# Altium integrated library MitchSwitch_Bypass.Library.IntLib: 283 symbols (part 2 of 3)
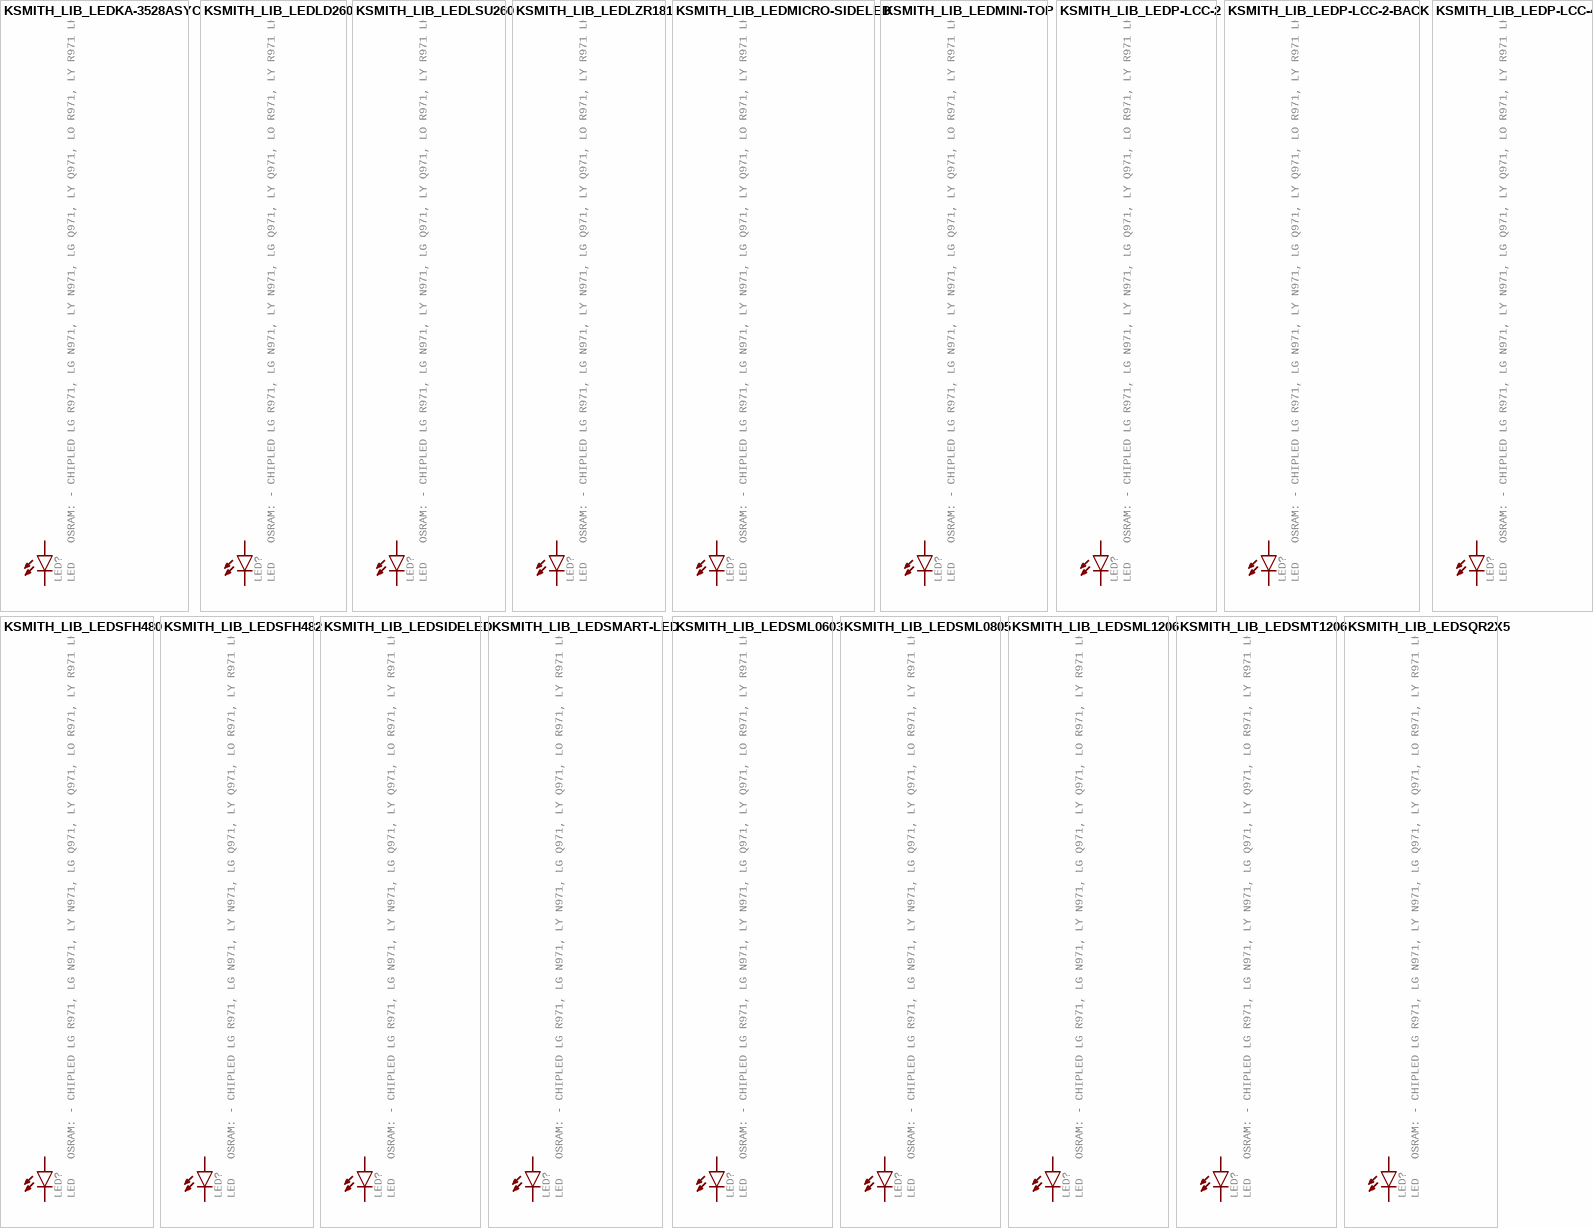
[diagram p10: symbols KSMITH_LIB_LEDKA-3528ASYC to KSMITH_LIB_LEDSQR2X5]

## KSMITH_LIB_LEDMINI-TOP
designator LED?, comment LED   OSRAM: - CHIPLED LG R971, LG N971, LY N971, LG Q971, LY Q971, LO R971, LY R971 LH N974, LH R974 LS Q976, LO Q976, LY Q976 LO Q996 - Hyper CHIPLED LW Q18S LB Q993, LB Q99A, LB R99A - SideLED LS A670, LO A670, LY A670, LG A670, LP A670 LB A673, LV A673, LT A673, LW A673 LH A674 LY A675 LS A676, LA A676, LO A676, LY A676, LW A676 LS A679, LY A679, LG A679 -  Hyper Micro SIDELEDÂ® LS Y876, LA Y876, LO Y876, LY Y876 LT Y87S - SmartLED LW L88C, LW L88S LB L89C, LB L89S, LG L890 LS L89K, LO L89K, LY L89K LS L896, LA L896, LO L896, LY L896 - TOPLED LS T670, LO T670, LY T670, LG T670, LP T670 LSG T670, LSP T670, LSY T670, LOP T670, LYG T670 LG T671, LOG T671, LSG T671 LB T673, LV T673, LT T673, LW T673 LH T674 LS T676, LA T676, LO T676, LY T676, LB T676, LH T676, LSB T676, LW T676 LB T67C, LV T67C, LT T67C, LS T67K, LO T67K, LY T67K, LW E67C LS E67B, LA E67B, LO E67B, LY E67B, LB E67C, LV E67C, LT E67C LW T67C LS T679, LY T679, LG T679 LS T770, LO T770, LY T770, LG T770, LP T770 LB T773, LV T773, LT T773, LW T773 LH T774 LS E675, LA E675, LY E675, LS T675 LS T776, LA T776, LO T776, LY T776, LB T776 LHGB T686 LT T68C, LB T68C - Hyper Mini TOPLEDÂ® LB M676 - Mini TOPLED SantanaÂ® LG M470 LS M47K, LO M47K, LY M47K    Source: http://www.osram.convergy.de   LUXEON: - LUMILEDÂ® LXK2-PW12-R00, LXK2-PW12-S00, LXK2-PW14-U00, LXK2-PW14-V00 LXK2-PM12-R00, LXK2-PM12-S00, LXK2-PM14-U00 LXK2-PE12-Q00, LXK2-PE12-R00, LXK2-PE12-S00, LXK2-PE14-T00, LXK2-PE14-U00 LXK2-PB12-K00, LXK2-PB12-L00, LXK2-PB12-M00, LXK2-PB14-N00, LXK2-PB14-P00, LXK2-PB14-Q00 LXK2-PR12-L00, LXK2-PR12-M00, LXK2-PR14-Q00, LXK2-PR14-R00 LXK2-PD12-Q00, LXK2-PD12-R00, LXK2-PD12-S00 LXK2-PH12-R00, LXK2-PH12-S00 LXK2-PL12-P00, LXK2-PL12-Q00, LXK2-PL12-R00    Source: www.luxeon.com   KINGBRIGHT:   KA-3528ASYC Source: www.kingbright.com
GateName_1: G$1; SymbolName_1: KSMITH_LIB_LED-1; DeviceName: MINI-TOP; DeviceSetName: KSMITH_LIB_LED; POPULARITY: 0; LibraryName: MitchSwitch_Bypass; Package: KSMITH_LIB_OSRAM-MINI-TOP-LED
footprint KSMITH_LIB_OSRAM-MINI-TOP-LED
pins: A, C

## KSMITH_LIB_LEDP-LCC-2
designator LED?, comment LED   OSRAM: - CHIPLED LG R971, LG N971, LY N971, LG Q971, LY Q971, LO R971, LY R971 LH N974, LH R974 LS Q976, LO Q976, LY Q976 LO Q996 - Hyper CHIPLED LW Q18S LB Q993, LB Q99A, LB R99A - SideLED LS A670, LO A670, LY A670, LG A670, LP A670 LB A673, LV A673, LT A673, LW A673 LH A674 LY A675 LS A676, LA A676, LO A676, LY A676, LW A676 LS A679, LY A679, LG A679 -  Hyper Micro SIDELEDÂ® LS Y876, LA Y876, LO Y876, LY Y876 LT Y87S - SmartLED LW L88C, LW L88S LB L89C, LB L89S, LG L890 LS L89K, LO L89K, LY L89K LS L896, LA L896, LO L896, LY L896 - TOPLED LS T670, LO T670, LY T670, LG T670, LP T670 LSG T670, LSP T670, LSY T670, LOP T670, LYG T670 LG T671, LOG T671, LSG T671 LB T673, LV T673, LT T673, LW T673 LH T674 LS T676, LA T676, LO T676, LY T676, LB T676, LH T676, LSB T676, LW T676 LB T67C, LV T67C, LT T67C, LS T67K, LO T67K, LY T67K, LW E67C LS E67B, LA E67B, LO E67B, LY E67B, LB E67C, LV E67C, LT E67C LW T67C LS T679, LY T679, LG T679 LS T770, LO T770, LY T770, LG T770, LP T770 LB T773, LV T773, LT T773, LW T773 LH T774 LS E675, LA E675, LY E675, LS T675 LS T776, LA T776, LO T776, LY T776, LB T776 LHGB T686 LT T68C, LB T68C - Hyper Mini TOPLEDÂ® LB M676 - Mini TOPLED SantanaÂ® LG M470 LS M47K, LO M47K, LY M47K    Source: http://www.osram.convergy.de   LUXEON: - LUMILEDÂ® LXK2-PW12-R00, LXK2-PW12-S00, LXK2-PW14-U00, LXK2-PW14-V00 LXK2-PM12-R00, LXK2-PM12-S00, LXK2-PM14-U00 LXK2-PE12-Q00, LXK2-PE12-R00, LXK2-PE12-S00, LXK2-PE14-T00, LXK2-PE14-U00 LXK2-PB12-K00, LXK2-PB12-L00, LXK2-PB12-M00, LXK2-PB14-N00, LXK2-PB14-P00, LXK2-PB14-Q00 LXK2-PR12-L00, LXK2-PR12-M00, LXK2-PR14-Q00, LXK2-PR14-R00 LXK2-PD12-Q00, LXK2-PD12-R00, LXK2-PD12-S00 LXK2-PH12-R00, LXK2-PH12-S00 LXK2-PL12-P00, LXK2-PL12-Q00, LXK2-PL12-R00    Source: www.luxeon.com   KINGBRIGHT:   KA-3528ASYC Source: www.kingbright.com
GateName_1: G$1; SymbolName_1: KSMITH_LIB_LED-1; DeviceName: P-LCC-2; DeviceSetName: KSMITH_LIB_LED; POPULARITY: 2; LibraryName: MitchSwitch_Bypass; Package: KSMITH_LIB_P-LCC-2
footprint KSMITH_LIB_P-LCC-2
pins: A, C

## KSMITH_LIB_LEDP-LCC-2-BACK
designator LED?, comment LED   OSRAM: - CHIPLED LG R971, LG N971, LY N971, LG Q971, LY Q971, LO R971, LY R971 LH N974, LH R974 LS Q976, LO Q976, LY Q976 LO Q996 - Hyper CHIPLED LW Q18S LB Q993, LB Q99A, LB R99A - SideLED LS A670, LO A670, LY A670, LG A670, LP A670 LB A673, LV A673, LT A673, LW A673 LH A674 LY A675 LS A676, LA A676, LO A676, LY A676, LW A676 LS A679, LY A679, LG A679 -  Hyper Micro SIDELEDÂ® LS Y876, LA Y876, LO Y876, LY Y876 LT Y87S - SmartLED LW L88C, LW L88S LB L89C, LB L89S, LG L890 LS L89K, LO L89K, LY L89K LS L896, LA L896, LO L896, LY L896 - TOPLED LS T670, LO T670, LY T670, LG T670, LP T670 LSG T670, LSP T670, LSY T670, LOP T670, LYG T670 LG T671, LOG T671, LSG T671 LB T673, LV T673, LT T673, LW T673 LH T674 LS T676, LA T676, LO T676, LY T676, LB T676, LH T676, LSB T676, LW T676 LB T67C, LV T67C, LT T67C, LS T67K, LO T67K, LY T67K, LW E67C LS E67B, LA E67B, LO E67B, LY E67B, LB E67C, LV E67C, LT E67C LW T67C LS T679, LY T679, LG T679 LS T770, LO T770, LY T770, LG T770, LP T770 LB T773, LV T773, LT T773, LW T773 LH T774 LS E675, LA E675, LY E675, LS T675 LS T776, LA T776, LO T776, LY T776, LB T776 LHGB T686 LT T68C, LB T68C - Hyper Mini TOPLEDÂ® LB M676 - Mini TOPLED SantanaÂ® LG M470 LS M47K, LO M47K, LY M47K    Source: http://www.osram.convergy.de   LUXEON: - LUMILEDÂ® LXK2-PW12-R00, LXK2-PW12-S00, LXK2-PW14-U00, LXK2-PW14-V00 LXK2-PM12-R00, LXK2-PM12-S00, LXK2-PM14-U00 LXK2-PE12-Q00, LXK2-PE12-R00, LXK2-PE12-S00, LXK2-PE14-T00, LXK2-PE14-U00 LXK2-PB12-K00, LXK2-PB12-L00, LXK2-PB12-M00, LXK2-PB14-N00, LXK2-PB14-P00, LXK2-PB14-Q00 LXK2-PR12-L00, LXK2-PR12-M00, LXK2-PR14-Q00, LXK2-PR14-R00 LXK2-PD12-Q00, LXK2-PD12-R00, LXK2-PD12-S00 LXK2-PH12-R00, LXK2-PH12-S00 LXK2-PL12-P00, LXK2-PL12-Q00, LXK2-PL12-R00    Source: www.luxeon.com   KINGBRIGHT:   KA-3528ASYC Source: www.kingbright.com
GateName_1: G$1; SymbolName_1: KSMITH_LIB_LED-1; DeviceName: P-LCC-2-BACK; DeviceSetName: KSMITH_LIB_LED; POPULARITY: 0; LibraryName: MitchSwitch_Bypass; Package: KSMITH_LIB_P-LCC-2-TOPLED-RG
footprint KSMITH_LIB_P-LCC-2-TOPLED-RG
pins: A, C

## KSMITH_LIB_LEDP-LCC-4
designator LED?, comment LED   OSRAM: - CHIPLED LG R971, LG N971, LY N971, LG Q971, LY Q971, LO R971, LY R971 LH N974, LH R974 LS Q976, LO Q976, LY Q976 LO Q996 - Hyper CHIPLED LW Q18S LB Q993, LB Q99A, LB R99A - SideLED LS A670, LO A670, LY A670, LG A670, LP A670 LB A673, LV A673, LT A673, LW A673 LH A674 LY A675 LS A676, LA A676, LO A676, LY A676, LW A676 LS A679, LY A679, LG A679 -  Hyper Micro SIDELEDÂ® LS Y876, LA Y876, LO Y876, LY Y876 LT Y87S - SmartLED LW L88C, LW L88S LB L89C, LB L89S, LG L890 LS L89K, LO L89K, LY L89K LS L896, LA L896, LO L896, LY L896 - TOPLED LS T670, LO T670, LY T670, LG T670, LP T670 LSG T670, LSP T670, LSY T670, LOP T670, LYG T670 LG T671, LOG T671, LSG T671 LB T673, LV T673, LT T673, LW T673 LH T674 LS T676, LA T676, LO T676, LY T676, LB T676, LH T676, LSB T676, LW T676 LB T67C, LV T67C, LT T67C, LS T67K, LO T67K, LY T67K, LW E67C LS E67B, LA E67B, LO E67B, LY E67B, LB E67C, LV E67C, LT E67C LW T67C LS T679, LY T679, LG T679 LS T770, LO T770, LY T770, LG T770, LP T770 LB T773, LV T773, LT T773, LW T773 LH T774 LS E675, LA E675, LY E675, LS T675 LS T776, LA T776, LO T776, LY T776, LB T776 LHGB T686 LT T68C, LB T68C - Hyper Mini TOPLEDÂ® LB M676 - Mini TOPLED SantanaÂ® LG M470 LS M47K, LO M47K, LY M47K    Source: http://www.osram.convergy.de   LUXEON: - LUMILEDÂ® LXK2-PW12-R00, LXK2-PW12-S00, LXK2-PW14-U00, LXK2-PW14-V00 LXK2-PM12-R00, LXK2-PM12-S00, LXK2-PM14-U00 LXK2-PE12-Q00, LXK2-PE12-R00, LXK2-PE12-S00, LXK2-PE14-T00, LXK2-PE14-U00 LXK2-PB12-K00, LXK2-PB12-L00, LXK2-PB12-M00, LXK2-PB14-N00, LXK2-PB14-P00, LXK2-PB14-Q00 LXK2-PR12-L00, LXK2-PR12-M00, LXK2-PR14-Q00, LXK2-PR14-R00 LXK2-PD12-Q00, LXK2-PD12-R00, LXK2-PD12-S00 LXK2-PH12-R00, LXK2-PH12-S00 LXK2-PL12-P00, LXK2-PL12-Q00, LXK2-PL12-R00    Source: www.luxeon.com   KINGBRIGHT:   KA-3528ASYC Source: www.kingbright.com
GateName_1: G$1; SymbolName_1: KSMITH_LIB_LED-1; DeviceName: P-LCC-4; DeviceSetName: KSMITH_LIB_LED; POPULARITY: 0; LibraryName: MitchSwitch_Bypass; Package: KSMITH_LIB_P-LCC-4
footprint KSMITH_LIB_P-LCC-4
pins: A, C@4 C

## KSMITH_LIB_LEDSFH480
designator LED?, comment LED   OSRAM: - CHIPLED LG R971, LG N971, LY N971, LG Q971, LY Q971, LO R971, LY R971 LH N974, LH R974 LS Q976, LO Q976, LY Q976 LO Q996 - Hyper CHIPLED LW Q18S LB Q993, LB Q99A, LB R99A - SideLED LS A670, LO A670, LY A670, LG A670, LP A670 LB A673, LV A673, LT A673, LW A673 LH A674 LY A675 LS A676, LA A676, LO A676, LY A676, LW A676 LS A679, LY A679, LG A679 -  Hyper Micro SIDELEDÂ® LS Y876, LA Y876, LO Y876, LY Y876 LT Y87S - SmartLED LW L88C, LW L88S LB L89C, LB L89S, LG L890 LS L89K, LO L89K, LY L89K LS L896, LA L896, LO L896, LY L896 - TOPLED LS T670, LO T670, LY T670, LG T670, LP T670 LSG T670, LSP T670, LSY T670, LOP T670, LYG T670 LG T671, LOG T671, LSG T671 LB T673, LV T673, LT T673, LW T673 LH T674 LS T676, LA T676, LO T676, LY T676, LB T676, LH T676, LSB T676, LW T676 LB T67C, LV T67C, LT T67C, LS T67K, LO T67K, LY T67K, LW E67C LS E67B, LA E67B, LO E67B, LY E67B, LB E67C, LV E67C, LT E67C LW T67C LS T679, LY T679, LG T679 LS T770, LO T770, LY T770, LG T770, LP T770 LB T773, LV T773, LT T773, LW T773 LH T774 LS E675, LA E675, LY E675, LS T675 LS T776, LA T776, LO T776, LY T776, LB T776 LHGB T686 LT T68C, LB T68C - Hyper Mini TOPLEDÂ® LB M676 - Mini TOPLED SantanaÂ® LG M470 LS M47K, LO M47K, LY M47K    Source: http://www.osram.convergy.de   LUXEON: - LUMILEDÂ® LXK2-PW12-R00, LXK2-PW12-S00, LXK2-PW14-U00, LXK2-PW14-V00 LXK2-PM12-R00, LXK2-PM12-S00, LXK2-PM14-U00 LXK2-PE12-Q00, LXK2-PE12-R00, LXK2-PE12-S00, LXK2-PE14-T00, LXK2-PE14-U00 LXK2-PB12-K00, LXK2-PB12-L00, LXK2-PB12-M00, LXK2-PB14-N00, LXK2-PB14-P00, LXK2-PB14-Q00 LXK2-PR12-L00, LXK2-PR12-M00, LXK2-PR14-Q00, LXK2-PR14-R00 LXK2-PD12-Q00, LXK2-PD12-R00, LXK2-PD12-S00 LXK2-PH12-R00, LXK2-PH12-S00 LXK2-PL12-P00, LXK2-PL12-Q00, LXK2-PL12-R00    Source: www.luxeon.com   KINGBRIGHT:   KA-3528ASYC Source: www.kingbright.com
GateName_1: G$1; SymbolName_1: KSMITH_LIB_LED-1; DeviceName: SFH480; DeviceSetName: KSMITH_LIB_LED; POPULARITY: 2; LibraryName: MitchSwitch_Bypass; Package: KSMITH_LIB_SFH480
footprint KSMITH_LIB_SFH480
pins: A, K C

## KSMITH_LIB_LEDSFH482
designator LED?, comment LED   OSRAM: - CHIPLED LG R971, LG N971, LY N971, LG Q971, LY Q971, LO R971, LY R971 LH N974, LH R974 LS Q976, LO Q976, LY Q976 LO Q996 - Hyper CHIPLED LW Q18S LB Q993, LB Q99A, LB R99A - SideLED LS A670, LO A670, LY A670, LG A670, LP A670 LB A673, LV A673, LT A673, LW A673 LH A674 LY A675 LS A676, LA A676, LO A676, LY A676, LW A676 LS A679, LY A679, LG A679 -  Hyper Micro SIDELEDÂ® LS Y876, LA Y876, LO Y876, LY Y876 LT Y87S - SmartLED LW L88C, LW L88S LB L89C, LB L89S, LG L890 LS L89K, LO L89K, LY L89K LS L896, LA L896, LO L896, LY L896 - TOPLED LS T670, LO T670, LY T670, LG T670, LP T670 LSG T670, LSP T670, LSY T670, LOP T670, LYG T670 LG T671, LOG T671, LSG T671 LB T673, LV T673, LT T673, LW T673 LH T674 LS T676, LA T676, LO T676, LY T676, LB T676, LH T676, LSB T676, LW T676 LB T67C, LV T67C, LT T67C, LS T67K, LO T67K, LY T67K, LW E67C LS E67B, LA E67B, LO E67B, LY E67B, LB E67C, LV E67C, LT E67C LW T67C LS T679, LY T679, LG T679 LS T770, LO T770, LY T770, LG T770, LP T770 LB T773, LV T773, LT T773, LW T773 LH T774 LS E675, LA E675, LY E675, LS T675 LS T776, LA T776, LO T776, LY T776, LB T776 LHGB T686 LT T68C, LB T68C - Hyper Mini TOPLEDÂ® LB M676 - Mini TOPLED SantanaÂ® LG M470 LS M47K, LO M47K, LY M47K    Source: http://www.osram.convergy.de   LUXEON: - LUMILEDÂ® LXK2-PW12-R00, LXK2-PW12-S00, LXK2-PW14-U00, LXK2-PW14-V00 LXK2-PM12-R00, LXK2-PM12-S00, LXK2-PM14-U00 LXK2-PE12-Q00, LXK2-PE12-R00, LXK2-PE12-S00, LXK2-PE14-T00, LXK2-PE14-U00 LXK2-PB12-K00, LXK2-PB12-L00, LXK2-PB12-M00, LXK2-PB14-N00, LXK2-PB14-P00, LXK2-PB14-Q00 LXK2-PR12-L00, LXK2-PR12-M00, LXK2-PR14-Q00, LXK2-PR14-R00 LXK2-PD12-Q00, LXK2-PD12-R00, LXK2-PD12-S00 LXK2-PH12-R00, LXK2-PH12-S00 LXK2-PL12-P00, LXK2-PL12-Q00, LXK2-PL12-R00    Source: www.luxeon.com   KINGBRIGHT:   KA-3528ASYC Source: www.kingbright.com
GateName_1: G$1; SymbolName_1: KSMITH_LIB_LED-1; DeviceName: SFH482; DeviceSetName: KSMITH_LIB_LED; POPULARITY: 0; LibraryName: MitchSwitch_Bypass; Package: KSMITH_LIB_SFH482
footprint KSMITH_LIB_SFH482
pins: A, K C

## KSMITH_LIB_LEDSIDELED
designator LED?, comment LED   OSRAM: - CHIPLED LG R971, LG N971, LY N971, LG Q971, LY Q971, LO R971, LY R971 LH N974, LH R974 LS Q976, LO Q976, LY Q976 LO Q996 - Hyper CHIPLED LW Q18S LB Q993, LB Q99A, LB R99A - SideLED LS A670, LO A670, LY A670, LG A670, LP A670 LB A673, LV A673, LT A673, LW A673 LH A674 LY A675 LS A676, LA A676, LO A676, LY A676, LW A676 LS A679, LY A679, LG A679 -  Hyper Micro SIDELEDÂ® LS Y876, LA Y876, LO Y876, LY Y876 LT Y87S - SmartLED LW L88C, LW L88S LB L89C, LB L89S, LG L890 LS L89K, LO L89K, LY L89K LS L896, LA L896, LO L896, LY L896 - TOPLED LS T670, LO T670, LY T670, LG T670, LP T670 LSG T670, LSP T670, LSY T670, LOP T670, LYG T670 LG T671, LOG T671, LSG T671 LB T673, LV T673, LT T673, LW T673 LH T674 LS T676, LA T676, LO T676, LY T676, LB T676, LH T676, LSB T676, LW T676 LB T67C, LV T67C, LT T67C, LS T67K, LO T67K, LY T67K, LW E67C LS E67B, LA E67B, LO E67B, LY E67B, LB E67C, LV E67C, LT E67C LW T67C LS T679, LY T679, LG T679 LS T770, LO T770, LY T770, LG T770, LP T770 LB T773, LV T773, LT T773, LW T773 LH T774 LS E675, LA E675, LY E675, LS T675 LS T776, LA T776, LO T776, LY T776, LB T776 LHGB T686 LT T68C, LB T68C - Hyper Mini TOPLEDÂ® LB M676 - Mini TOPLED SantanaÂ® LG M470 LS M47K, LO M47K, LY M47K    Source: http://www.osram.convergy.de   LUXEON: - LUMILEDÂ® LXK2-PW12-R00, LXK2-PW12-S00, LXK2-PW14-U00, LXK2-PW14-V00 LXK2-PM12-R00, LXK2-PM12-S00, LXK2-PM14-U00 LXK2-PE12-Q00, LXK2-PE12-R00, LXK2-PE12-S00, LXK2-PE14-T00, LXK2-PE14-U00 LXK2-PB12-K00, LXK2-PB12-L00, LXK2-PB12-M00, LXK2-PB14-N00, LXK2-PB14-P00, LXK2-PB14-Q00 LXK2-PR12-L00, LXK2-PR12-M00, LXK2-PR14-Q00, LXK2-PR14-R00 LXK2-PD12-Q00, LXK2-PD12-R00, LXK2-PD12-S00 LXK2-PH12-R00, LXK2-PH12-S00 LXK2-PL12-P00, LXK2-PL12-Q00, LXK2-PL12-R00    Source: www.luxeon.com   KINGBRIGHT:   KA-3528ASYC Source: www.kingbright.com
GateName_1: G$1; SymbolName_1: KSMITH_LIB_LED-1; DeviceSetName: KSMITH_LIB_LED; POPULARITY: 2; DeviceName: SIDELED; LibraryName: MitchSwitch_Bypass; Package: KSMITH_LIB_OSRAM-SIDELED
footprint KSMITH_LIB_OSRAM-SIDELED
pins: A, C

## KSMITH_LIB_LEDSMART-LED
designator LED?, comment LED   OSRAM: - CHIPLED LG R971, LG N971, LY N971, LG Q971, LY Q971, LO R971, LY R971 LH N974, LH R974 LS Q976, LO Q976, LY Q976 LO Q996 - Hyper CHIPLED LW Q18S LB Q993, LB Q99A, LB R99A - SideLED LS A670, LO A670, LY A670, LG A670, LP A670 LB A673, LV A673, LT A673, LW A673 LH A674 LY A675 LS A676, LA A676, LO A676, LY A676, LW A676 LS A679, LY A679, LG A679 -  Hyper Micro SIDELEDÂ® LS Y876, LA Y876, LO Y876, LY Y876 LT Y87S - SmartLED LW L88C, LW L88S LB L89C, LB L89S, LG L890 LS L89K, LO L89K, LY L89K LS L896, LA L896, LO L896, LY L896 - TOPLED LS T670, LO T670, LY T670, LG T670, LP T670 LSG T670, LSP T670, LSY T670, LOP T670, LYG T670 LG T671, LOG T671, LSG T671 LB T673, LV T673, LT T673, LW T673 LH T674 LS T676, LA T676, LO T676, LY T676, LB T676, LH T676, LSB T676, LW T676 LB T67C, LV T67C, LT T67C, LS T67K, LO T67K, LY T67K, LW E67C LS E67B, LA E67B, LO E67B, LY E67B, LB E67C, LV E67C, LT E67C LW T67C LS T679, LY T679, LG T679 LS T770, LO T770, LY T770, LG T770, LP T770 LB T773, LV T773, LT T773, LW T773 LH T774 LS E675, LA E675, LY E675, LS T675 LS T776, LA T776, LO T776, LY T776, LB T776 LHGB T686 LT T68C, LB T68C - Hyper Mini TOPLEDÂ® LB M676 - Mini TOPLED SantanaÂ® LG M470 LS M47K, LO M47K, LY M47K    Source: http://www.osram.convergy.de   LUXEON: - LUMILEDÂ® LXK2-PW12-R00, LXK2-PW12-S00, LXK2-PW14-U00, LXK2-PW14-V00 LXK2-PM12-R00, LXK2-PM12-S00, LXK2-PM14-U00 LXK2-PE12-Q00, LXK2-PE12-R00, LXK2-PE12-S00, LXK2-PE14-T00, LXK2-PE14-U00 LXK2-PB12-K00, LXK2-PB12-L00, LXK2-PB12-M00, LXK2-PB14-N00, LXK2-PB14-P00, LXK2-PB14-Q00 LXK2-PR12-L00, LXK2-PR12-M00, LXK2-PR14-Q00, LXK2-PR14-R00 LXK2-PD12-Q00, LXK2-PD12-R00, LXK2-PD12-S00 LXK2-PH12-R00, LXK2-PH12-S00 LXK2-PL12-P00, LXK2-PL12-Q00, LXK2-PL12-R00    Source: www.luxeon.com   KINGBRIGHT:   KA-3528ASYC Source: www.kingbright.com
GateName_1: G$1; SymbolName_1: KSMITH_LIB_LED-1; DeviceName: SMART-LED; DeviceSetName: KSMITH_LIB_LED; POPULARITY: 0; LibraryName: MitchSwitch_Bypass; Package: KSMITH_LIB_SMART-LED
footprint KSMITH_LIB_SMART-LED
pins: A, B C

## KSMITH_LIB_LEDSML0603
designator LED?, comment LED   OSRAM: - CHIPLED LG R971, LG N971, LY N971, LG Q971, LY Q971, LO R971, LY R971 LH N974, LH R974 LS Q976, LO Q976, LY Q976 LO Q996 - Hyper CHIPLED LW Q18S LB Q993, LB Q99A, LB R99A - SideLED LS A670, LO A670, LY A670, LG A670, LP A670 LB A673, LV A673, LT A673, LW A673 LH A674 LY A675 LS A676, LA A676, LO A676, LY A676, LW A676 LS A679, LY A679, LG A679 -  Hyper Micro SIDELEDÂ® LS Y876, LA Y876, LO Y876, LY Y876 LT Y87S - SmartLED LW L88C, LW L88S LB L89C, LB L89S, LG L890 LS L89K, LO L89K, LY L89K LS L896, LA L896, LO L896, LY L896 - TOPLED LS T670, LO T670, LY T670, LG T670, LP T670 LSG T670, LSP T670, LSY T670, LOP T670, LYG T670 LG T671, LOG T671, LSG T671 LB T673, LV T673, LT T673, LW T673 LH T674 LS T676, LA T676, LO T676, LY T676, LB T676, LH T676, LSB T676, LW T676 LB T67C, LV T67C, LT T67C, LS T67K, LO T67K, LY T67K, LW E67C LS E67B, LA E67B, LO E67B, LY E67B, LB E67C, LV E67C, LT E67C LW T67C LS T679, LY T679, LG T679 LS T770, LO T770, LY T770, LG T770, LP T770 LB T773, LV T773, LT T773, LW T773 LH T774 LS E675, LA E675, LY E675, LS T675 LS T776, LA T776, LO T776, LY T776, LB T776 LHGB T686 LT T68C, LB T68C - Hyper Mini TOPLEDÂ® LB M676 - Mini TOPLED SantanaÂ® LG M470 LS M47K, LO M47K, LY M47K    Source: http://www.osram.convergy.de   LUXEON: - LUMILEDÂ® LXK2-PW12-R00, LXK2-PW12-S00, LXK2-PW14-U00, LXK2-PW14-V00 LXK2-PM12-R00, LXK2-PM12-S00, LXK2-PM14-U00 LXK2-PE12-Q00, LXK2-PE12-R00, LXK2-PE12-S00, LXK2-PE14-T00, LXK2-PE14-U00 LXK2-PB12-K00, LXK2-PB12-L00, LXK2-PB12-M00, LXK2-PB14-N00, LXK2-PB14-P00, LXK2-PB14-Q00 LXK2-PR12-L00, LXK2-PR12-M00, LXK2-PR14-Q00, LXK2-PR14-R00 LXK2-PD12-Q00, LXK2-PD12-R00, LXK2-PD12-S00 LXK2-PH12-R00, LXK2-PH12-S00 LXK2-PL12-P00, LXK2-PL12-Q00, LXK2-PL12-R00    Source: www.luxeon.com   KINGBRIGHT:   KA-3528ASYC Source: www.kingbright.com
GateName_1: G$1; SymbolName_1: KSMITH_LIB_LED-1; DeviceName: SML0603; DeviceSetName: KSMITH_LIB_LED; POPULARITY: 17; LibraryName: MitchSwitch_Bypass; Package: KSMITH_LIB_SML0603
footprint KSMITH_LIB_SML0603
pins: A, C

## KSMITH_LIB_LEDSML0805
designator LED?, comment LED   OSRAM: - CHIPLED LG R971, LG N971, LY N971, LG Q971, LY Q971, LO R971, LY R971 LH N974, LH R974 LS Q976, LO Q976, LY Q976 LO Q996 - Hyper CHIPLED LW Q18S LB Q993, LB Q99A, LB R99A - SideLED LS A670, LO A670, LY A670, LG A670, LP A670 LB A673, LV A673, LT A673, LW A673 LH A674 LY A675 LS A676, LA A676, LO A676, LY A676, LW A676 LS A679, LY A679, LG A679 -  Hyper Micro SIDELEDÂ® LS Y876, LA Y876, LO Y876, LY Y876 LT Y87S - SmartLED LW L88C, LW L88S LB L89C, LB L89S, LG L890 LS L89K, LO L89K, LY L89K LS L896, LA L896, LO L896, LY L896 - TOPLED LS T670, LO T670, LY T670, LG T670, LP T670 LSG T670, LSP T670, LSY T670, LOP T670, LYG T670 LG T671, LOG T671, LSG T671 LB T673, LV T673, LT T673, LW T673 LH T674 LS T676, LA T676, LO T676, LY T676, LB T676, LH T676, LSB T676, LW T676 LB T67C, LV T67C, LT T67C, LS T67K, LO T67K, LY T67K, LW E67C LS E67B, LA E67B, LO E67B, LY E67B, LB E67C, LV E67C, LT E67C LW T67C LS T679, LY T679, LG T679 LS T770, LO T770, LY T770, LG T770, LP T770 LB T773, LV T773, LT T773, LW T773 LH T774 LS E675, LA E675, LY E675, LS T675 LS T776, LA T776, LO T776, LY T776, LB T776 LHGB T686 LT T68C, LB T68C - Hyper Mini TOPLEDÂ® LB M676 - Mini TOPLED SantanaÂ® LG M470 LS M47K, LO M47K, LY M47K    Source: http://www.osram.convergy.de   LUXEON: - LUMILEDÂ® LXK2-PW12-R00, LXK2-PW12-S00, LXK2-PW14-U00, LXK2-PW14-V00 LXK2-PM12-R00, LXK2-PM12-S00, LXK2-PM14-U00 LXK2-PE12-Q00, LXK2-PE12-R00, LXK2-PE12-S00, LXK2-PE14-T00, LXK2-PE14-U00 LXK2-PB12-K00, LXK2-PB12-L00, LXK2-PB12-M00, LXK2-PB14-N00, LXK2-PB14-P00, LXK2-PB14-Q00 LXK2-PR12-L00, LXK2-PR12-M00, LXK2-PR14-Q00, LXK2-PR14-R00 LXK2-PD12-Q00, LXK2-PD12-R00, LXK2-PD12-S00 LXK2-PH12-R00, LXK2-PH12-S00 LXK2-PL12-P00, LXK2-PL12-Q00, LXK2-PL12-R00    Source: www.luxeon.com   KINGBRIGHT:   KA-3528ASYC Source: www.kingbright.com
GateName_1: G$1; SymbolName_1: KSMITH_LIB_LED-1; DeviceName: SML0805; DeviceSetName: KSMITH_LIB_LED; POPULARITY: 17; LibraryName: MitchSwitch_Bypass; Package: KSMITH_LIB_SML0805
footprint KSMITH_LIB_SML0805
pins: A, C

## KSMITH_LIB_LEDSML1206
designator LED?, comment LED   OSRAM: - CHIPLED LG R971, LG N971, LY N971, LG Q971, LY Q971, LO R971, LY R971 LH N974, LH R974 LS Q976, LO Q976, LY Q976 LO Q996 - Hyper CHIPLED LW Q18S LB Q993, LB Q99A, LB R99A - SideLED LS A670, LO A670, LY A670, LG A670, LP A670 LB A673, LV A673, LT A673, LW A673 LH A674 LY A675 LS A676, LA A676, LO A676, LY A676, LW A676 LS A679, LY A679, LG A679 -  Hyper Micro SIDELEDÂ® LS Y876, LA Y876, LO Y876, LY Y876 LT Y87S - SmartLED LW L88C, LW L88S LB L89C, LB L89S, LG L890 LS L89K, LO L89K, LY L89K LS L896, LA L896, LO L896, LY L896 - TOPLED LS T670, LO T670, LY T670, LG T670, LP T670 LSG T670, LSP T670, LSY T670, LOP T670, LYG T670 LG T671, LOG T671, LSG T671 LB T673, LV T673, LT T673, LW T673 LH T674 LS T676, LA T676, LO T676, LY T676, LB T676, LH T676, LSB T676, LW T676 LB T67C, LV T67C, LT T67C, LS T67K, LO T67K, LY T67K, LW E67C LS E67B, LA E67B, LO E67B, LY E67B, LB E67C, LV E67C, LT E67C LW T67C LS T679, LY T679, LG T679 LS T770, LO T770, LY T770, LG T770, LP T770 LB T773, LV T773, LT T773, LW T773 LH T774 LS E675, LA E675, LY E675, LS T675 LS T776, LA T776, LO T776, LY T776, LB T776 LHGB T686 LT T68C, LB T68C - Hyper Mini TOPLEDÂ® LB M676 - Mini TOPLED SantanaÂ® LG M470 LS M47K, LO M47K, LY M47K    Source: http://www.osram.convergy.de   LUXEON: - LUMILEDÂ® LXK2-PW12-R00, LXK2-PW12-S00, LXK2-PW14-U00, LXK2-PW14-V00 LXK2-PM12-R00, LXK2-PM12-S00, LXK2-PM14-U00 LXK2-PE12-Q00, LXK2-PE12-R00, LXK2-PE12-S00, LXK2-PE14-T00, LXK2-PE14-U00 LXK2-PB12-K00, LXK2-PB12-L00, LXK2-PB12-M00, LXK2-PB14-N00, LXK2-PB14-P00, LXK2-PB14-Q00 LXK2-PR12-L00, LXK2-PR12-M00, LXK2-PR14-Q00, LXK2-PR14-R00 LXK2-PD12-Q00, LXK2-PD12-R00, LXK2-PD12-S00 LXK2-PH12-R00, LXK2-PH12-S00 LXK2-PL12-P00, LXK2-PL12-Q00, LXK2-PL12-R00    Source: www.luxeon.com   KINGBRIGHT:   KA-3528ASYC Source: www.kingbright.com
GateName_1: G$1; SymbolName_1: KSMITH_LIB_LED-1; DeviceName: SML1206; DeviceSetName: KSMITH_LIB_LED; POPULARITY: 6; LibraryName: MitchSwitch_Bypass; Package: KSMITH_LIB_SML1206
footprint KSMITH_LIB_SML1206
pins: A, C

## KSMITH_LIB_LEDSMT1206
designator LED?, comment LED   OSRAM: - CHIPLED LG R971, LG N971, LY N971, LG Q971, LY Q971, LO R971, LY R971 LH N974, LH R974 LS Q976, LO Q976, LY Q976 LO Q996 - Hyper CHIPLED LW Q18S LB Q993, LB Q99A, LB R99A - SideLED LS A670, LO A670, LY A670, LG A670, LP A670 LB A673, LV A673, LT A673, LW A673 LH A674 LY A675 LS A676, LA A676, LO A676, LY A676, LW A676 LS A679, LY A679, LG A679 -  Hyper Micro SIDELEDÂ® LS Y876, LA Y876, LO Y876, LY Y876 LT Y87S - SmartLED LW L88C, LW L88S LB L89C, LB L89S, LG L890 LS L89K, LO L89K, LY L89K LS L896, LA L896, LO L896, LY L896 - TOPLED LS T670, LO T670, LY T670, LG T670, LP T670 LSG T670, LSP T670, LSY T670, LOP T670, LYG T670 LG T671, LOG T671, LSG T671 LB T673, LV T673, LT T673, LW T673 LH T674 LS T676, LA T676, LO T676, LY T676, LB T676, LH T676, LSB T676, LW T676 LB T67C, LV T67C, LT T67C, LS T67K, LO T67K, LY T67K, LW E67C LS E67B, LA E67B, LO E67B, LY E67B, LB E67C, LV E67C, LT E67C LW T67C LS T679, LY T679, LG T679 LS T770, LO T770, LY T770, LG T770, LP T770 LB T773, LV T773, LT T773, LW T773 LH T774 LS E675, LA E675, LY E675, LS T675 LS T776, LA T776, LO T776, LY T776, LB T776 LHGB T686 LT T68C, LB T68C - Hyper Mini TOPLEDÂ® LB M676 - Mini TOPLED SantanaÂ® LG M470 LS M47K, LO M47K, LY M47K    Source: http://www.osram.convergy.de   LUXEON: - LUMILEDÂ® LXK2-PW12-R00, LXK2-PW12-S00, LXK2-PW14-U00, LXK2-PW14-V00 LXK2-PM12-R00, LXK2-PM12-S00, LXK2-PM14-U00 LXK2-PE12-Q00, LXK2-PE12-R00, LXK2-PE12-S00, LXK2-PE14-T00, LXK2-PE14-U00 LXK2-PB12-K00, LXK2-PB12-L00, LXK2-PB12-M00, LXK2-PB14-N00, LXK2-PB14-P00, LXK2-PB14-Q00 LXK2-PR12-L00, LXK2-PR12-M00, LXK2-PR14-Q00, LXK2-PR14-R00 LXK2-PD12-Q00, LXK2-PD12-R00, LXK2-PD12-S00 LXK2-PH12-R00, LXK2-PH12-S00 LXK2-PL12-P00, LXK2-PL12-Q00, LXK2-PL12-R00    Source: www.luxeon.com   KINGBRIGHT:   KA-3528ASYC Source: www.kingbright.com
GateName_1: G$1; SymbolName_1: KSMITH_LIB_LED-1; DeviceName: SMT1206; DeviceSetName: KSMITH_LIB_LED; POPULARITY: 20; LibraryName: MitchSwitch_Bypass; Package: KSMITH_LIB_1206
footprint KSMITH_LIB_1206
pins: A, C

## KSMITH_LIB_LEDSQR2X5
designator LED?, comment LED   OSRAM: - CHIPLED LG R971, LG N971, LY N971, LG Q971, LY Q971, LO R971, LY R971 LH N974, LH R974 LS Q976, LO Q976, LY Q976 LO Q996 - Hyper CHIPLED LW Q18S LB Q993, LB Q99A, LB R99A - SideLED LS A670, LO A670, LY A670, LG A670, LP A670 LB A673, LV A673, LT A673, LW A673 LH A674 LY A675 LS A676, LA A676, LO A676, LY A676, LW A676 LS A679, LY A679, LG A679 -  Hyper Micro SIDELEDÂ® LS Y876, LA Y876, LO Y876, LY Y876 LT Y87S - SmartLED LW L88C, LW L88S LB L89C, LB L89S, LG L890 LS L89K, LO L89K, LY L89K LS L896, LA L896, LO L896, LY L896 - TOPLED LS T670, LO T670, LY T670, LG T670, LP T670 LSG T670, LSP T670, LSY T670, LOP T670, LYG T670 LG T671, LOG T671, LSG T671 LB T673, LV T673, LT T673, LW T673 LH T674 LS T676, LA T676, LO T676, LY T676, LB T676, LH T676, LSB T676, LW T676 LB T67C, LV T67C, LT T67C, LS T67K, LO T67K, LY T67K, LW E67C LS E67B, LA E67B, LO E67B, LY E67B, LB E67C, LV E67C, LT E67C LW T67C LS T679, LY T679, LG T679 LS T770, LO T770, LY T770, LG T770, LP T770 LB T773, LV T773, LT T773, LW T773 LH T774 LS E675, LA E675, LY E675, LS T675 LS T776, LA T776, LO T776, LY T776, LB T776 LHGB T686 LT T68C, LB T68C - Hyper Mini TOPLEDÂ® LB M676 - Mini TOPLED SantanaÂ® LG M470 LS M47K, LO M47K, LY M47K    Source: http://www.osram.convergy.de   LUXEON: - LUMILEDÂ® LXK2-PW12-R00, LXK2-PW12-S00, LXK2-PW14-U00, LXK2-PW14-V00 LXK2-PM12-R00, LXK2-PM12-S00, LXK2-PM14-U00 LXK2-PE12-Q00, LXK2-PE12-R00, LXK2-PE12-S00, LXK2-PE14-T00, LXK2-PE14-U00 LXK2-PB12-K00, LXK2-PB12-L00, LXK2-PB12-M00, LXK2-PB14-N00, LXK2-PB14-P00, LXK2-PB14-Q00 LXK2-PR12-L00, LXK2-PR12-M00, LXK2-PR14-Q00, LXK2-PR14-R00 LXK2-PD12-Q00, LXK2-PD12-R00, LXK2-PD12-S00 LXK2-PH12-R00, LXK2-PH12-S00 LXK2-PL12-P00, LXK2-PL12-Q00, LXK2-PL12-R00    Source: www.luxeon.com   KINGBRIGHT:   KA-3528ASYC Source: www.kingbright.com
GateName_1: G$1; SymbolName_1: KSMITH_LIB_LED-1; DeviceName: SQR2X5; DeviceSetName: KSMITH_LIB_LED; POPULARITY: 2; LibraryName: MitchSwitch_Bypass; Package: KSMITH_LIB_LED2X5
footprint KSMITH_LIB_LED2X5
pins: A, K C

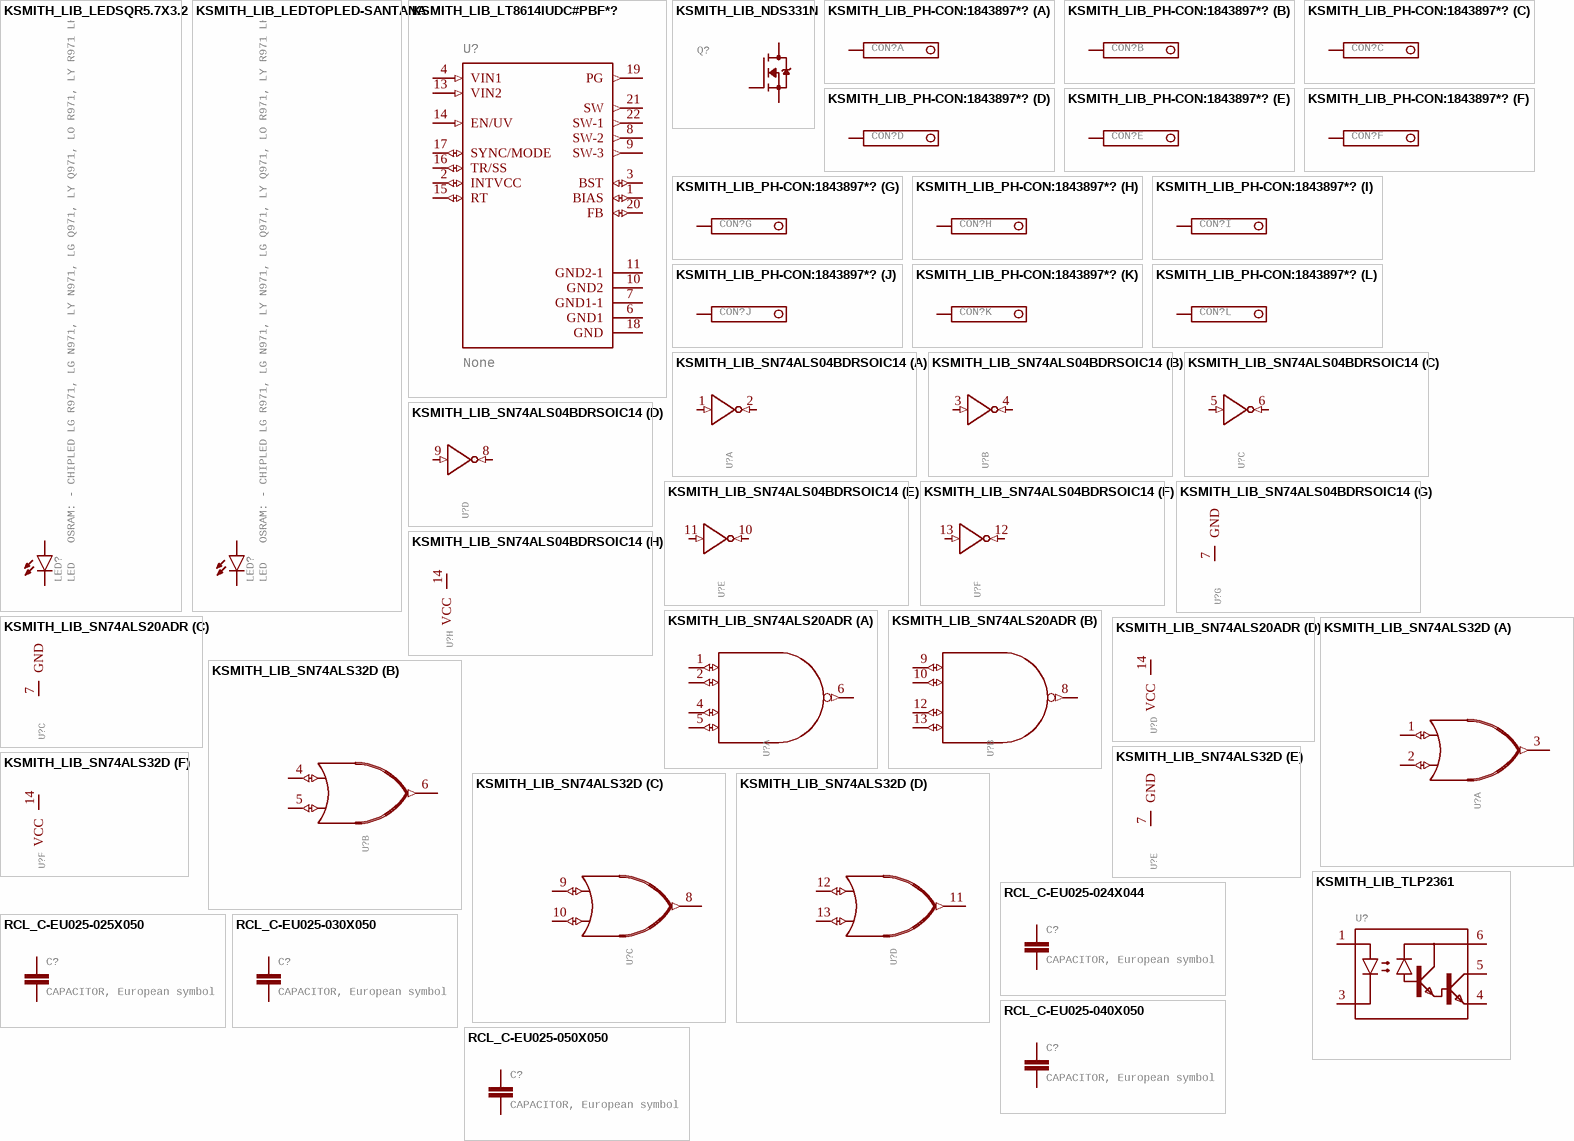
[diagram p3: symbols KSMITH_LIB_LEDSQR5.7X3.2 to RCL_C-EU025-050X050]

## KSMITH_LIB_LEDSQR5.7X3.2
designator LED?, comment LED   OSRAM: - CHIPLED LG R971, LG N971, LY N971, LG Q971, LY Q971, LO R971, LY R971 LH N974, LH R974 LS Q976, LO Q976, LY Q976 LO Q996 - Hyper CHIPLED LW Q18S LB Q993, LB Q99A, LB R99A - SideLED LS A670, LO A670, LY A670, LG A670, LP A670 LB A673, LV A673, LT A673, LW A673 LH A674 LY A675 LS A676, LA A676, LO A676, LY A676, LW A676 LS A679, LY A679, LG A679 -  Hyper Micro SIDELEDÂ® LS Y876, LA Y876, LO Y876, LY Y876 LT Y87S - SmartLED LW L88C, LW L88S LB L89C, LB L89S, LG L890 LS L89K, LO L89K, LY L89K LS L896, LA L896, LO L896, LY L896 - TOPLED LS T670, LO T670, LY T670, LG T670, LP T670 LSG T670, LSP T670, LSY T670, LOP T670, LYG T670 LG T671, LOG T671, LSG T671 LB T673, LV T673, LT T673, LW T673 LH T674 LS T676, LA T676, LO T676, LY T676, LB T676, LH T676, LSB T676, LW T676 LB T67C, LV T67C, LT T67C, LS T67K, LO T67K, LY T67K, LW E67C LS E67B, LA E67B, LO E67B, LY E67B, LB E67C, LV E67C, LT E67C LW T67C LS T679, LY T679, LG T679 LS T770, LO T770, LY T770, LG T770, LP T770 LB T773, LV T773, LT T773, LW T773 LH T774 LS E675, LA E675, LY E675, LS T675 LS T776, LA T776, LO T776, LY T776, LB T776 LHGB T686 LT T68C, LB T68C - Hyper Mini TOPLEDÂ® LB M676 - Mini TOPLED SantanaÂ® LG M470 LS M47K, LO M47K, LY M47K    Source: http://www.osram.convergy.de   LUXEON: - LUMILEDÂ® LXK2-PW12-R00, LXK2-PW12-S00, LXK2-PW14-U00, LXK2-PW14-V00 LXK2-PM12-R00, LXK2-PM12-S00, LXK2-PM14-U00 LXK2-PE12-Q00, LXK2-PE12-R00, LXK2-PE12-S00, LXK2-PE14-T00, LXK2-PE14-U00 LXK2-PB12-K00, LXK2-PB12-L00, LXK2-PB12-M00, LXK2-PB14-N00, LXK2-PB14-P00, LXK2-PB14-Q00 LXK2-PR12-L00, LXK2-PR12-M00, LXK2-PR14-Q00, LXK2-PR14-R00 LXK2-PD12-Q00, LXK2-PD12-R00, LXK2-PD12-S00 LXK2-PH12-R00, LXK2-PH12-S00 LXK2-PL12-P00, LXK2-PL12-Q00, LXK2-PL12-R00    Source: www.luxeon.com   KINGBRIGHT:   KA-3528ASYC Source: www.kingbright.com
GateName_1: G$1; SymbolName_1: KSMITH_LIB_LED-1; DeviceName: SQR5.7X3.2; DeviceSetName: KSMITH_LIB_LED; POPULARITY: 0; LibraryName: MitchSwitch_Bypass; Package: KSMITH_LIB_U57X32
footprint KSMITH_LIB_U57X32
pins: A, K C

## KSMITH_LIB_LEDTOPLED-SANTANA
designator LED?, comment LED   OSRAM: - CHIPLED LG R971, LG N971, LY N971, LG Q971, LY Q971, LO R971, LY R971 LH N974, LH R974 LS Q976, LO Q976, LY Q976 LO Q996 - Hyper CHIPLED LW Q18S LB Q993, LB Q99A, LB R99A - SideLED LS A670, LO A670, LY A670, LG A670, LP A670 LB A673, LV A673, LT A673, LW A673 LH A674 LY A675 LS A676, LA A676, LO A676, LY A676, LW A676 LS A679, LY A679, LG A679 -  Hyper Micro SIDELEDÂ® LS Y876, LA Y876, LO Y876, LY Y876 LT Y87S - SmartLED LW L88C, LW L88S LB L89C, LB L89S, LG L890 LS L89K, LO L89K, LY L89K LS L896, LA L896, LO L896, LY L896 - TOPLED LS T670, LO T670, LY T670, LG T670, LP T670 LSG T670, LSP T670, LSY T670, LOP T670, LYG T670 LG T671, LOG T671, LSG T671 LB T673, LV T673, LT T673, LW T673 LH T674 LS T676, LA T676, LO T676, LY T676, LB T676, LH T676, LSB T676, LW T676 LB T67C, LV T67C, LT T67C, LS T67K, LO T67K, LY T67K, LW E67C LS E67B, LA E67B, LO E67B, LY E67B, LB E67C, LV E67C, LT E67C LW T67C LS T679, LY T679, LG T679 LS T770, LO T770, LY T770, LG T770, LP T770 LB T773, LV T773, LT T773, LW T773 LH T774 LS E675, LA E675, LY E675, LS T675 LS T776, LA T776, LO T776, LY T776, LB T776 LHGB T686 LT T68C, LB T68C - Hyper Mini TOPLEDÂ® LB M676 - Mini TOPLED SantanaÂ® LG M470 LS M47K, LO M47K, LY M47K    Source: http://www.osram.convergy.de   LUXEON: - LUMILEDÂ® LXK2-PW12-R00, LXK2-PW12-S00, LXK2-PW14-U00, LXK2-PW14-V00 LXK2-PM12-R00, LXK2-PM12-S00, LXK2-PM14-U00 LXK2-PE12-Q00, LXK2-PE12-R00, LXK2-PE12-S00, LXK2-PE14-T00, LXK2-PE14-U00 LXK2-PB12-K00, LXK2-PB12-L00, LXK2-PB12-M00, LXK2-PB14-N00, LXK2-PB14-P00, LXK2-PB14-Q00 LXK2-PR12-L00, LXK2-PR12-M00, LXK2-PR14-Q00, LXK2-PR14-R00 LXK2-PD12-Q00, LXK2-PD12-R00, LXK2-PD12-S00 LXK2-PH12-R00, LXK2-PH12-S00 LXK2-PL12-P00, LXK2-PL12-Q00, LXK2-PL12-R00    Source: www.luxeon.com   KINGBRIGHT:   KA-3528ASYC Source: www.kingbright.com
GateName_1: G$1; SymbolName_1: KSMITH_LIB_LED-1; DeviceName: TOPLED-SANTANA; DeviceSetName: KSMITH_LIB_LED; POPULARITY: 0; LibraryName: MitchSwitch_Bypass; Package: KSMITH_LIB_MINI-TOPLED-SANTANA
footprint KSMITH_LIB_MINI-TOPLED-SANTANA
pins: A, C

## KSMITH_LIB_LT8614IUDC#PBF*?
designator U?, comment None
GateName_1: G$1; SymbolName_1: KSMITH_LIB_LT8614IUDC#PBF; DeviceSetName: KSMITH_LIB_LT8614IUDC#PBF*?; DESCRIPTION: LT8614 - 42V, 4A Synchronous Step-Down Silent Switcher with 2.5μA Quiescent Current; MF: Linear Technology/Analog; MP: LT8614IUDC#PBF; LibraryName: MitchSwitch_Bypass; Package: KSMITH_LIB_QFN-UDC20-BB; AVAILABILITY: Unavailable; PACKAGE: WFQFN-20 Linear Technology; PRICE: None
footprint KSMITH_LIB_QFN-UDC20-BB
pins: 1 BIAS (io), 2 INTVCC (io), 3 BST (io), 4 VIN1 (in), 6 GND1 (power), 7 GND1-1 (power), 8 SW-2 (out), 9 SW-3 (out), 10 GND2 (power), 11 GND2-1 (power), 13 VIN2 (in), 14 EN/UV (in), 15 RT (io), 16 TR/SS (io), 17 SYNC/MODE (io), 18 GND (power), 19 PG (out), 20 FB (io), 21 SW (out), 22 SW-1 (out)

## KSMITH_LIB_NDS331N
designator Q?
GateName_1: G$1; SymbolName_1: KSMITH_LIB_N-MOSFET; DeviceSetName: KSMITH_LIB_NDS331N; LibraryName: MitchSwitch_Bypass; Package: KSMITH_LIB_SOT23
footprint KSMITH_LIB_SOT23
pins: 1 G, 2 S, 3 D

## KSMITH_LIB_PH-CON:1843897*?
designator CON?
GateName_1: G$1; SymbolName_1: KSMITH_LIB_PIN; GateName_2: G$2; GateName_3: G$3; GateName_4: G$4; GateName_5: G$5; GateName_6: G$6; GateName_7: G$7; GateName_8: G$8; GateName_9: G$9; GateName_10: G$10; GateName_11: G$11; GateName_12: G$12; DeviceSetName: KSMITH_LIB_PH-CON:1843897*?; SymbolName_2: KSMITH_LIB_PIN; SymbolName_3: KSMITH_LIB_PIN; SymbolName_4: KSMITH_LIB_PIN; SymbolName_5: KSMITH_LIB_PIN; SymbolName_6: KSMITH_LIB_PIN; SymbolName_7: KSMITH_LIB_PIN; SymbolName_8: KSMITH_LIB_PIN; SymbolName_9: KSMITH_LIB_PIN; SymbolName_10: KSMITH_LIB_PIN; SymbolName_11: KSMITH_LIB_PIN; SymbolName_12: KSMITH_LIB_PIN; LibraryName: MitchSwitch_Bypass; Package: KSMITH_LIB_1843897
footprint KSMITH_LIB_1843897
part A pins: 1 K
part B pins: 2 K
part C pins: 3 K
part D pins: 4 K
part E pins: 5 K
part F pins: 6 K
part G pins: 7 K
part H pins: 8 K
part I pins: 9 K
part J pins: 10 K
part K pins: 11 K
part L pins: 12 K

## KSMITH_LIB_SN74ALS04BDRSOIC14
designator U?
GateName_1: A; SymbolName_1: KSMITH_LIB_INVERTER; GateName_2: B; GateName_3: C; GateName_4: D; GateName_5: E; GateName_6: F; GateName_7: G; SymbolName_7: KSMITH_LIB_GND; GateName_8: H; SymbolName_8: KSMITH_LIB_VCC; DeviceName: SOIC14; DeviceSetName: KSMITH_LIB_SN74ALS04BDR; SymbolName_2: KSMITH_LIB_INVERTER; SymbolName_3: KSMITH_LIB_INVERTER; SymbolName_4: KSMITH_LIB_INVERTER; SymbolName_5: KSMITH_LIB_INVERTER; SymbolName_6: KSMITH_LIB_INVERTER; LibraryName: MitchSwitch_Bypass; Package: KSMITH_LIB_SOIC127P780X200-14N
footprint KSMITH_LIB_SOIC127P780X200-14N
part A pins: 1 I (in), 2 O (in)
part B pins: 3 I (in), 4 O (in)
part C pins: 5 I (in), 6 O (in)
part D pins: 8 O (in), 9 I (in)
part E pins: 10 O (in), 11 I (in)
part F pins: 12 O (in), 13 I (in)
part G pins: 7 GND (power)
part H pins: 14 VCC (power)

## KSMITH_LIB_SN74ALS20ADR
designator U?
GateName_1: A; SymbolName_1: KSMITH_LIB_4NAND; GateName_2: B; GateName_3: C; SymbolName_3: KSMITH_LIB_GND; GateName_4: D; SymbolName_4: KSMITH_LIB_VCC; DeviceSetName: KSMITH_LIB_SN74ALS20ADR; SymbolName_2: KSMITH_LIB_4NAND; LibraryName: MitchSwitch_Bypass; Package: KSMITH_LIB_SOIC127P780X200-14N
footprint KSMITH_LIB_SOIC127P780X200-14N
part A pins: 1 A (io), 2 B (io), 4 C (io), 5 D (io), 6 Y (out)
part B pins: 8 Y (out), 9 A (io), 10 B (io), 12 C (io), 13 D (io)
part C pins: 7 GND (power)
part D pins: 14 VCC (power)

## KSMITH_LIB_SN74ALS32D
designator U?
GateName_1: A; SymbolName_1: KSMITH_LIB_OR; GateName_2: B; GateName_3: C; GateName_4: D; GateName_5: E; SymbolName_5: KSMITH_LIB_GND; GateName_6: F; SymbolName_6: KSMITH_LIB_VCC; DeviceSetName: KSMITH_LIB_SN74ALS32D; SymbolName_2: KSMITH_LIB_OR; SymbolName_3: KSMITH_LIB_OR; SymbolName_4: KSMITH_LIB_OR; LibraryName: MitchSwitch_Bypass; Package: KSMITH_LIB_SOIC127P780X200-14N
footprint KSMITH_LIB_SOIC127P780X200-14N
part A pins: 1 A (io), 2 B (io), 3 Y (out)
part B pins: 4 A (io), 5 B (io), 6 Y (out)
part C pins: 8 Y (out), 9 A (io), 10 B (io)
part D pins: 11 Y (out), 12 A (io), 13 B (io)
part E pins: 7 GND (power)
part F pins: 14 VCC (power)

## KSMITH_LIB_TLP2361
designator U?
GateName_1: G$1; SymbolName_1: KSMITH_LIB_TLP2361; LibraryName: MitchSwitch_Bypass; DeviceSetName: KSMITH_LIB_TLP2361; Package: KSMITH_LIB_SO06
footprint KSMITH_LIB_SO06
pins: 1 A, 3 C, 4 GND, 5 VO, 6 VCC

## RCL_C-EU025-024X044
designator C?, comment CAPACITOR, European symbol
GateName_1: G$1; SymbolName_1: RCL_C-EU; DeviceName: 025-024X044; POPULARITY: 56; LibraryName: MitchSwitch_Bypass; DeviceSetName: RCL_C-EU; Package: RCL_C025-024X044; SPICEPREFIX: C
footprint RCL_C025-024X044
pins: 1, 2

## RCL_C-EU025-025X050
designator C?, comment CAPACITOR, European symbol
GateName_1: G$1; SymbolName_1: RCL_C-EU; DeviceName: 025-025X050; POPULARITY: 65; LibraryName: MitchSwitch_Bypass; DeviceSetName: RCL_C-EU; Package: RCL_C025-025X050; SPICEPREFIX: C
footprint RCL_C025-025X050
pins: 1, 2

## RCL_C-EU025-030X050
designator C?, comment CAPACITOR, European symbol
GateName_1: G$1; SymbolName_1: RCL_C-EU; DeviceName: 025-030X050; POPULARITY: 14; LibraryName: MitchSwitch_Bypass; DeviceSetName: RCL_C-EU; Package: RCL_C025-030X050; SPICEPREFIX: C
footprint RCL_C025-030X050
pins: 1, 2

## RCL_C-EU025-040X050
designator C?, comment CAPACITOR, European symbol
GateName_1: G$1; SymbolName_1: RCL_C-EU; DeviceName: 025-040X050; POPULARITY: 4; LibraryName: MitchSwitch_Bypass; DeviceSetName: RCL_C-EU; Package: RCL_C025-040X050; SPICEPREFIX: C
footprint RCL_C025-040X050
pins: 1, 2

## RCL_C-EU025-050X050
designator C?, comment CAPACITOR, European symbol
GateName_1: G$1; SymbolName_1: RCL_C-EU; DeviceName: 025-050X050; POPULARITY: 16; LibraryName: MitchSwitch_Bypass; DeviceSetName: RCL_C-EU; Package: RCL_C025-050X050; SPICEPREFIX: C
footprint RCL_C025-050X050
pins: 1, 2

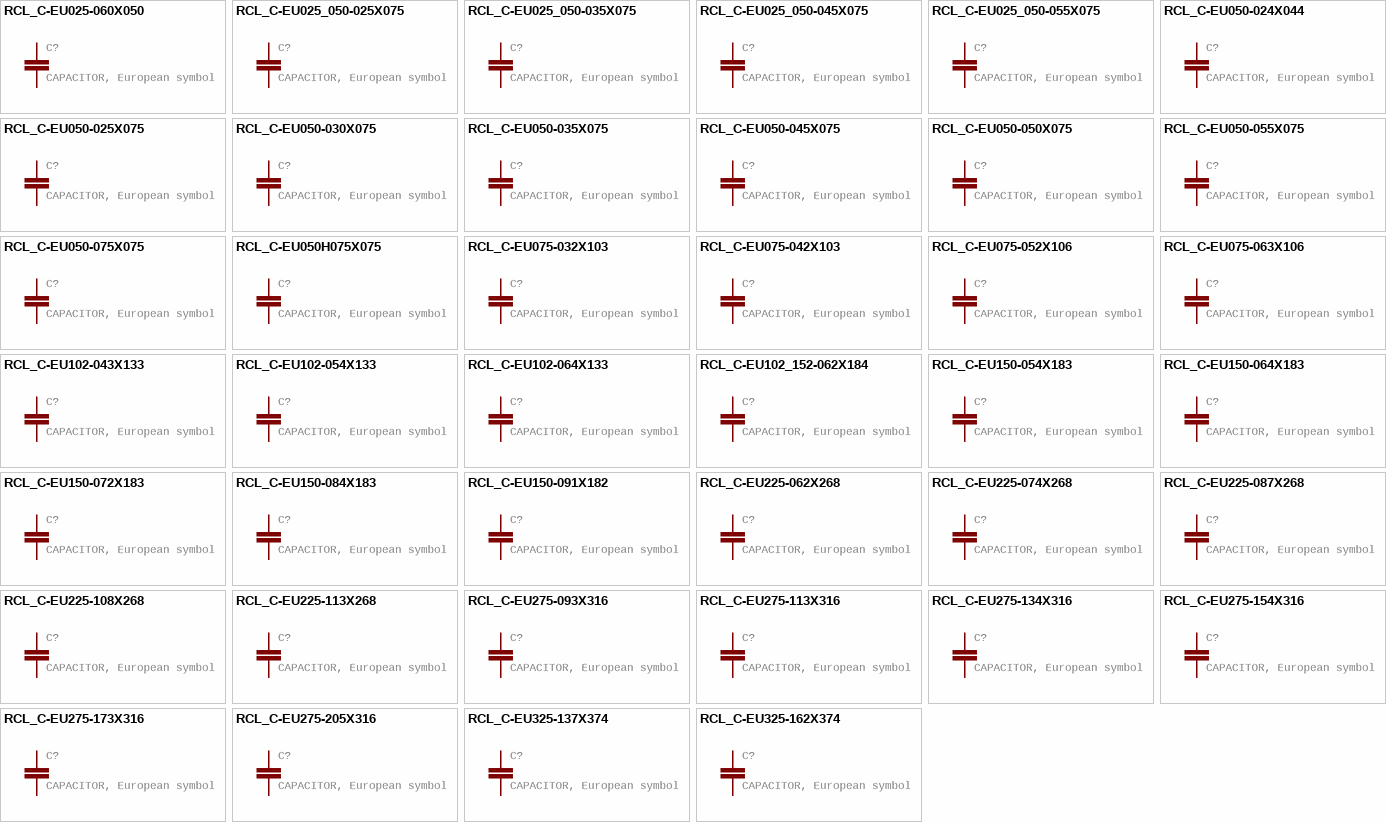
[diagram p4: symbols RCL_C-EU025-060X050 to RCL_C-EU325-162X374]

## RCL_C-EU025-060X050
designator C?, comment CAPACITOR, European symbol
GateName_1: G$1; SymbolName_1: RCL_C-EU; DeviceName: 025-060X050; POPULARITY: 0; LibraryName: MitchSwitch_Bypass; DeviceSetName: RCL_C-EU; Package: RCL_C025-060X050; SPICEPREFIX: C
footprint RCL_C025-060X050
pins: 1, 2

## RCL_C-EU025_050-025X075
designator C?, comment CAPACITOR, European symbol
GateName_1: G$1; SymbolName_1: RCL_C-EU; DeviceName: 025_050-025X075; POPULARITY: 0; LibraryName: MitchSwitch_Bypass; DeviceSetName: RCL_C-EU; Package: RCL_C025_050-025X075; SPICEPREFIX: C
footprint RCL_C025_050-025X075
pins: 1, 2

## RCL_C-EU025_050-035X075
designator C?, comment CAPACITOR, European symbol
GateName_1: G$1; SymbolName_1: RCL_C-EU; DeviceName: 025_050-035X075; POPULARITY: 0; LibraryName: MitchSwitch_Bypass; DeviceSetName: RCL_C-EU; Package: RCL_C025_050-035X075; SPICEPREFIX: C
footprint RCL_C025_050-035X075
pins: 1, 2

## RCL_C-EU025_050-045X075
designator C?, comment CAPACITOR, European symbol
GateName_1: G$1; SymbolName_1: RCL_C-EU; DeviceName: 025_050-045X075; POPULARITY: 0; LibraryName: MitchSwitch_Bypass; DeviceSetName: RCL_C-EU; Package: RCL_C025_050-045X075; SPICEPREFIX: C
footprint RCL_C025_050-045X075
pins: 1, 2

## RCL_C-EU025_050-055X075
designator C?, comment CAPACITOR, European symbol
GateName_1: G$1; SymbolName_1: RCL_C-EU; DeviceName: 025_050-055X075; POPULARITY: 1; LibraryName: MitchSwitch_Bypass; DeviceSetName: RCL_C-EU; Package: RCL_C025_050-055X075; SPICEPREFIX: C
footprint RCL_C025_050-055X075
pins: 1, 2

## RCL_C-EU050-024X044
designator C?, comment CAPACITOR, European symbol
GateName_1: G$1; SymbolName_1: RCL_C-EU; DeviceName: 050-024X044; POPULARITY: 33; LibraryName: MitchSwitch_Bypass; DeviceSetName: RCL_C-EU; Package: RCL_C050-024X044; SPICEPREFIX: C
footprint RCL_C050-024X044
pins: 1, 2

## RCL_C-EU050-025X075
designator C?, comment CAPACITOR, European symbol
GateName_1: G$1; SymbolName_1: RCL_C-EU; DeviceName: 050-025X075; POPULARITY: 29; LibraryName: MitchSwitch_Bypass; DeviceSetName: RCL_C-EU; Package: RCL_C050-025X075; SPICEPREFIX: C
footprint RCL_C050-025X075
pins: 1, 2

## RCL_C-EU050-030X075
designator C?, comment CAPACITOR, European symbol
GateName_1: G$1; SymbolName_1: RCL_C-EU; DeviceName: 050-030X075; POPULARITY: 9; LibraryName: MitchSwitch_Bypass; DeviceSetName: RCL_C-EU; Package: RCL_C050-030X075; SPICEPREFIX: C
footprint RCL_C050-030X075
pins: 1, 2

## RCL_C-EU050-035X075
designator C?, comment CAPACITOR, European symbol
GateName_1: G$1; SymbolName_1: RCL_C-EU; DeviceName: 050-035X075; POPULARITY: 2; LibraryName: MitchSwitch_Bypass; DeviceSetName: RCL_C-EU; Package: RCL_C050-035X075; SPICEPREFIX: C
footprint RCL_C050-035X075
pins: 1, 2

## RCL_C-EU050-045X075
designator C?, comment CAPACITOR, European symbol
GateName_1: G$1; SymbolName_1: RCL_C-EU; DeviceName: 050-045X075; POPULARITY: 1; LibraryName: MitchSwitch_Bypass; DeviceSetName: RCL_C-EU; Package: RCL_C050-045X075; SPICEPREFIX: C
footprint RCL_C050-045X075
pins: 1, 2

## RCL_C-EU050-050X075
designator C?, comment CAPACITOR, European symbol
GateName_1: G$1; SymbolName_1: RCL_C-EU; DeviceName: 050-050X075; POPULARITY: 1; LibraryName: MitchSwitch_Bypass; DeviceSetName: RCL_C-EU; Package: RCL_C050-050X075; SPICEPREFIX: C
footprint RCL_C050-050X075
pins: 1, 2

## RCL_C-EU050-055X075
designator C?, comment CAPACITOR, European symbol
GateName_1: G$1; SymbolName_1: RCL_C-EU; DeviceName: 050-055X075; POPULARITY: 1; LibraryName: MitchSwitch_Bypass; DeviceSetName: RCL_C-EU; Package: RCL_C050-055X075; SPICEPREFIX: C
footprint RCL_C050-055X075
pins: 1, 2

## RCL_C-EU050-075X075
designator C?, comment CAPACITOR, European symbol
GateName_1: G$1; SymbolName_1: RCL_C-EU; DeviceName: 050-075X075; POPULARITY: 0; LibraryName: MitchSwitch_Bypass; DeviceSetName: RCL_C-EU; Package: RCL_C050-075X075; SPICEPREFIX: C
footprint RCL_C050-075X075
pins: 1, 2

## RCL_C-EU050H075X075
designator C?, comment CAPACITOR, European symbol
GateName_1: G$1; SymbolName_1: RCL_C-EU; DeviceName: 050H075X075; POPULARITY: 0; LibraryName: MitchSwitch_Bypass; DeviceSetName: RCL_C-EU; Package: RCL_C050H075X075; SPICEPREFIX: C
footprint RCL_C050H075X075
pins: 1, 2

## RCL_C-EU075-032X103
designator C?, comment CAPACITOR, European symbol
GateName_1: G$1; SymbolName_1: RCL_C-EU; DeviceName: 075-032X103; POPULARITY: 0; LibraryName: MitchSwitch_Bypass; DeviceSetName: RCL_C-EU; Package: RCL_C075-032X103; SPICEPREFIX: C
footprint RCL_C075-032X103
pins: 1, 2

## RCL_C-EU075-042X103
designator C?, comment CAPACITOR, European symbol
GateName_1: G$1; SymbolName_1: RCL_C-EU; DeviceName: 075-042X103; POPULARITY: 0; LibraryName: MitchSwitch_Bypass; DeviceSetName: RCL_C-EU; Package: RCL_C075-042X103; SPICEPREFIX: C
footprint RCL_C075-042X103
pins: 1, 2

## RCL_C-EU075-052X106
designator C?, comment CAPACITOR, European symbol
GateName_1: G$1; SymbolName_1: RCL_C-EU; DeviceName: 075-052X106; POPULARITY: 4; LibraryName: MitchSwitch_Bypass; DeviceSetName: RCL_C-EU; Package: RCL_C075-052X106; SPICEPREFIX: C
footprint RCL_C075-052X106
pins: 1, 2

## RCL_C-EU075-063X106
designator C?, comment CAPACITOR, European symbol
GateName_1: G$1; SymbolName_1: RCL_C-EU; DeviceName: 075-063X106; POPULARITY: 0; LibraryName: MitchSwitch_Bypass; DeviceSetName: RCL_C-EU; Package: RCL_C075-063X106; SPICEPREFIX: C
footprint RCL_C075-063X106
pins: 1, 2

## RCL_C-EU102-043X133
designator C?, comment CAPACITOR, European symbol
GateName_1: G$1; SymbolName_1: RCL_C-EU; DeviceName: 102-043X133; POPULARITY: 1; LibraryName: MitchSwitch_Bypass; DeviceSetName: RCL_C-EU; Package: RCL_C102-043X133; SPICEPREFIX: C
footprint RCL_C102-043X133
pins: 1, 2

## RCL_C-EU102-054X133
designator C?, comment CAPACITOR, European symbol
GateName_1: G$1; SymbolName_1: RCL_C-EU; DeviceName: 102-054X133; POPULARITY: 0; LibraryName: MitchSwitch_Bypass; DeviceSetName: RCL_C-EU; Package: RCL_C102-054X133; SPICEPREFIX: C
footprint RCL_C102-054X133
pins: 1, 2

## RCL_C-EU102-064X133
designator C?, comment CAPACITOR, European symbol
GateName_1: G$1; SymbolName_1: RCL_C-EU; DeviceName: 102-064X133; POPULARITY: 0; LibraryName: MitchSwitch_Bypass; DeviceSetName: RCL_C-EU; Package: RCL_C102-064X133; SPICEPREFIX: C
footprint RCL_C102-064X133
pins: 1, 2

## RCL_C-EU102_152-062X184
designator C?, comment CAPACITOR, European symbol
GateName_1: G$1; SymbolName_1: RCL_C-EU; DeviceName: 102_152-062X184; POPULARITY: 0; LibraryName: MitchSwitch_Bypass; DeviceSetName: RCL_C-EU; Package: RCL_C102_152-062X184; SPICEPREFIX: C
footprint RCL_C102_152-062X184
pins: 1, 2

## RCL_C-EU150-054X183
designator C?, comment CAPACITOR, European symbol
GateName_1: G$1; SymbolName_1: RCL_C-EU; DeviceName: 150-054X183; POPULARITY: 3; LibraryName: MitchSwitch_Bypass; DeviceSetName: RCL_C-EU; Package: RCL_C150-054X183; SPICEPREFIX: C
footprint RCL_C150-054X183
pins: 1, 2

## RCL_C-EU150-064X183
designator C?, comment CAPACITOR, European symbol
GateName_1: G$1; SymbolName_1: RCL_C-EU; DeviceName: 150-064X183; POPULARITY: 0; LibraryName: MitchSwitch_Bypass; DeviceSetName: RCL_C-EU; Package: RCL_C150-064X183; SPICEPREFIX: C
footprint RCL_C150-064X183
pins: 1, 2

## RCL_C-EU150-072X183
designator C?, comment CAPACITOR, European symbol
GateName_1: G$1; SymbolName_1: RCL_C-EU; DeviceName: 150-072X183; POPULARITY: 0; LibraryName: MitchSwitch_Bypass; DeviceSetName: RCL_C-EU; Package: RCL_C150-072X183; SPICEPREFIX: C
footprint RCL_C150-072X183
pins: 1, 2

## RCL_C-EU150-084X183
designator C?, comment CAPACITOR, European symbol
GateName_1: G$1; SymbolName_1: RCL_C-EU; DeviceName: 150-084X183; POPULARITY: 0; LibraryName: MitchSwitch_Bypass; DeviceSetName: RCL_C-EU; Package: RCL_C150-084X183; SPICEPREFIX: C
footprint RCL_C150-084X183
pins: 1, 2

## RCL_C-EU150-091X182
designator C?, comment CAPACITOR, European symbol
GateName_1: G$1; SymbolName_1: RCL_C-EU; DeviceName: 150-091X182; POPULARITY: 0; LibraryName: MitchSwitch_Bypass; DeviceSetName: RCL_C-EU; Package: RCL_C150-091X182; SPICEPREFIX: C
footprint RCL_C150-091X182
pins: 1, 2

## RCL_C-EU225-062X268
designator C?, comment CAPACITOR, European symbol
GateName_1: G$1; SymbolName_1: RCL_C-EU; DeviceName: 225-062X268; POPULARITY: 0; LibraryName: MitchSwitch_Bypass; DeviceSetName: RCL_C-EU; Package: RCL_C225-062X268; SPICEPREFIX: C
footprint RCL_C225-062X268
pins: 1, 2

## RCL_C-EU225-074X268
designator C?, comment CAPACITOR, European symbol
GateName_1: G$1; SymbolName_1: RCL_C-EU; DeviceName: 225-074X268; POPULARITY: 2; LibraryName: MitchSwitch_Bypass; DeviceSetName: RCL_C-EU; Package: RCL_C225-074X268; SPICEPREFIX: C
footprint RCL_C225-074X268
pins: 1, 2

## RCL_C-EU225-087X268
designator C?, comment CAPACITOR, European symbol
GateName_1: G$1; SymbolName_1: RCL_C-EU; DeviceName: 225-087X268; POPULARITY: 0; LibraryName: MitchSwitch_Bypass; DeviceSetName: RCL_C-EU; Package: RCL_C225-087X268; SPICEPREFIX: C
footprint RCL_C225-087X268
pins: 1, 2

## RCL_C-EU225-108X268
designator C?, comment CAPACITOR, European symbol
GateName_1: G$1; SymbolName_1: RCL_C-EU; DeviceName: 225-108X268; POPULARITY: 0; LibraryName: MitchSwitch_Bypass; DeviceSetName: RCL_C-EU; Package: RCL_C225-108X268; SPICEPREFIX: C
footprint RCL_C225-108X268
pins: 1, 2

## RCL_C-EU225-113X268
designator C?, comment CAPACITOR, European symbol
GateName_1: G$1; SymbolName_1: RCL_C-EU; DeviceName: 225-113X268; POPULARITY: 0; LibraryName: MitchSwitch_Bypass; DeviceSetName: RCL_C-EU; Package: RCL_C225-113X268; SPICEPREFIX: C
footprint RCL_C225-113X268
pins: 1, 2

## RCL_C-EU275-093X316
designator C?, comment CAPACITOR, European symbol
GateName_1: G$1; SymbolName_1: RCL_C-EU; DeviceName: 275-093X316; POPULARITY: 0; LibraryName: MitchSwitch_Bypass; DeviceSetName: RCL_C-EU; Package: RCL_C275-093X316; SPICEPREFIX: C
footprint RCL_C275-093X316
pins: 1, 2

## RCL_C-EU275-113X316
designator C?, comment CAPACITOR, European symbol
GateName_1: G$1; SymbolName_1: RCL_C-EU; DeviceName: 275-113X316; POPULARITY: 0; LibraryName: MitchSwitch_Bypass; DeviceSetName: RCL_C-EU; Package: RCL_C275-113X316; SPICEPREFIX: C
footprint RCL_C275-113X316
pins: 1, 2

## RCL_C-EU275-134X316
designator C?, comment CAPACITOR, European symbol
GateName_1: G$1; SymbolName_1: RCL_C-EU; DeviceName: 275-134X316; POPULARITY: 0; LibraryName: MitchSwitch_Bypass; DeviceSetName: RCL_C-EU; Package: RCL_C275-134X316; SPICEPREFIX: C
footprint RCL_C275-134X316
pins: 1, 2

## RCL_C-EU275-154X316
designator C?, comment CAPACITOR, European symbol
GateName_1: G$1; SymbolName_1: RCL_C-EU; DeviceName: 275-154X316; POPULARITY: 0; LibraryName: MitchSwitch_Bypass; DeviceSetName: RCL_C-EU; Package: RCL_C275-154X316; SPICEPREFIX: C
footprint RCL_C275-154X316
pins: 1, 2

## RCL_C-EU275-173X316
designator C?, comment CAPACITOR, European symbol
GateName_1: G$1; SymbolName_1: RCL_C-EU; DeviceName: 275-173X316; POPULARITY: 0; LibraryName: MitchSwitch_Bypass; DeviceSetName: RCL_C-EU; Package: RCL_C275-173X316; SPICEPREFIX: C
footprint RCL_C275-173X316
pins: 1, 2

## RCL_C-EU275-205X316
designator C?, comment CAPACITOR, European symbol
GateName_1: G$1; SymbolName_1: RCL_C-EU; DeviceName: 275-205X316; POPULARITY: 0; LibraryName: MitchSwitch_Bypass; DeviceSetName: RCL_C-EU; Package: RCL_C275-205X316; SPICEPREFIX: C
footprint RCL_C275-205X316
pins: 1, 2

## RCL_C-EU325-137X374
designator C?, comment CAPACITOR, European symbol
GateName_1: G$1; SymbolName_1: RCL_C-EU; DeviceName: 325-137X374; POPULARITY: 0; LibraryName: MitchSwitch_Bypass; DeviceSetName: RCL_C-EU; Package: RCL_C325-137X374; SPICEPREFIX: C
footprint RCL_C325-137X374
pins: 1, 2

## RCL_C-EU325-162X374
designator C?, comment CAPACITOR, European symbol
GateName_1: G$1; SymbolName_1: RCL_C-EU; DeviceName: 325-162X374; POPULARITY: 0; LibraryName: MitchSwitch_Bypass; DeviceSetName: RCL_C-EU; Package: RCL_C325-162X374; SPICEPREFIX: C
footprint RCL_C325-162X374
pins: 1, 2

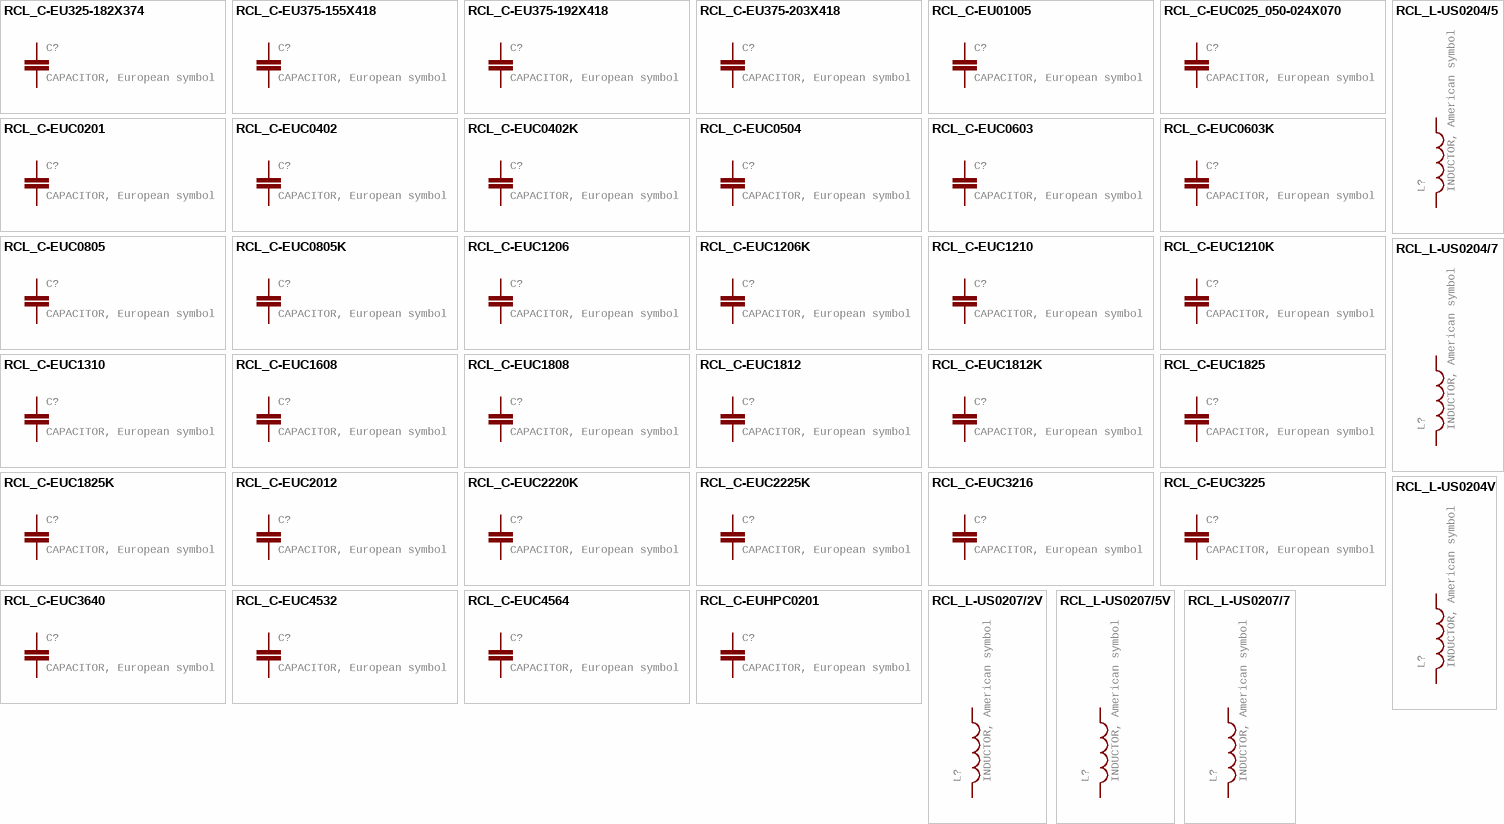
[diagram p5: symbols RCL_C-EU325-182X374 to RCL_L-US0207/7]

## RCL_C-EU325-182X374
designator C?, comment CAPACITOR, European symbol
GateName_1: G$1; SymbolName_1: RCL_C-EU; DeviceName: 325-182X374; POPULARITY: 0; LibraryName: MitchSwitch_Bypass; DeviceSetName: RCL_C-EU; Package: RCL_C325-182X374; SPICEPREFIX: C
footprint RCL_C325-182X374
pins: 1, 2

## RCL_C-EU375-155X418
designator C?, comment CAPACITOR, European symbol
GateName_1: G$1; SymbolName_1: RCL_C-EU; DeviceName: 375-155X418; POPULARITY: 0; LibraryName: MitchSwitch_Bypass; DeviceSetName: RCL_C-EU; Package: RCL_C375-155X418; SPICEPREFIX: C
footprint RCL_C375-155X418
pins: 1, 2